# Altium integrated library Altium_WCAP-ATG5 (rev22d).IntLib: 204 symbols (part 4 of 4)
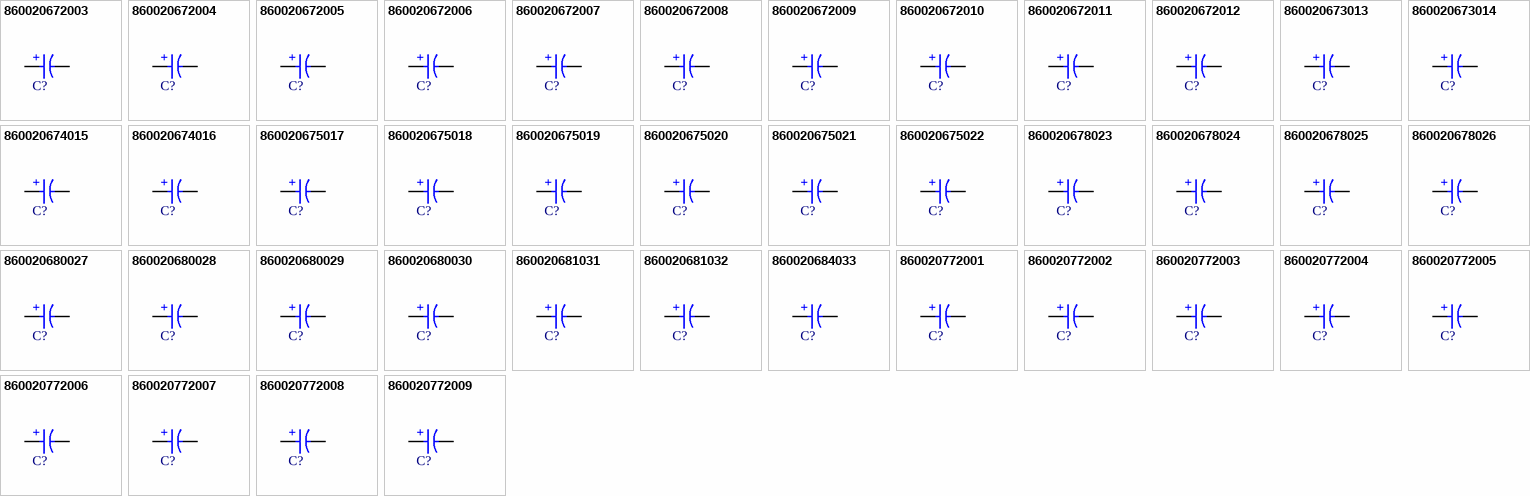
[diagram p8: symbols 860020672003 to 860020772009]

## 860020772005
designator C?, comment 1µF  (value not drawn)
WCAP-ATG5 Aluminum Electrolytic Capacitor, Radial, THT, D5 x H11mm, 1µF, 63V; Manufacturer Part Number: 860020772005; Manufacturer: Wurth Elektronik; Capacitance Tolerance: +/-20%; Dissipation Factor: 9%; Endurance: 2000h; Leakage Current: 3µA; Ripple Current: 13mA; Technical Reference: ATDC110010M063DSPA3B000; Category: Aluminum Electrolytic Capacitors; Match Code: WCAP-ATG5; ComponentLink1Description: Website Link; ComponentLink1URL: https://www.we-online.com/redexpert/article/860020772005?ad; ComponentLink2Description: Datasheet Link; ComponentLink2URL: https://www.we-online.com/redexpert/spec/860020772005?ad; Mount: Through Hole; Operating Temperature Max: 105°C; Operating Temperature Min: -40°C; Packaging: Ammo Pack; Height: 11mm; Diameter: 5mm; Capacitance: 1µF; Rated Voltage (DC): 63V
footprint WCAP-ATG5_D5H11
simulation model 860020772005_1uF
pins: 1 P, 2 N
text: +

## 860020772006
designator C?, comment 2.2µF  (value not drawn)
WCAP-ATG5 Aluminum Electrolytic Capacitor, Radial, THT, D5 x H11mm, 2.2µF, 63V; Manufacturer Part Number: 860020772006; Manufacturer: Wurth Elektronik; Capacitance Tolerance: +/-20%; Dissipation Factor: 9%; Endurance: 2000h; Leakage Current: 3µA; Ripple Current: 20mA; Technical Reference: ATDC1102R2M063DSPA3B000; Category: Aluminum Electrolytic Capacitors; Match Code: WCAP-ATG5; ComponentLink1Description: Website Link; ComponentLink1URL: https://www.we-online.com/redexpert/article/860020772006?ad; ComponentLink2Description: Datasheet Link; ComponentLink2URL: https://www.we-online.com/redexpert/spec/860020772006?ad; Mount: Through Hole; Operating Temperature Max: 105°C; Operating Temperature Min: -40°C; Packaging: Ammo Pack; Height: 11mm; Diameter: 5mm; Capacitance: 2.2µF; Rated Voltage (DC): 63V
footprint WCAP-ATG5_D5H11
simulation model 860020772006_2.2uF
pins: 1 P, 2 N
text: +

## 860020772007
designator C?, comment 3.3µF  (value not drawn)
WCAP-ATG5 Aluminum Electrolytic Capacitor, Radial, THT, D5 x H11mm, 3.3µF, 63V; Manufacturer Part Number: 860020772007; Manufacturer: Wurth Elektronik; Capacitance Tolerance: +/-20%; Dissipation Factor: 9%; Endurance: 2000h; Leakage Current: 3µA; Ripple Current: 28mA; Technical Reference: ATDC1103R3M063DSPA3B000; Category: Aluminum Electrolytic Capacitors; Match Code: WCAP-ATG5; ComponentLink1Description: Website Link; ComponentLink1URL: https://www.we-online.com/redexpert/article/860020772007?ad; ComponentLink2Description: Datasheet Link; ComponentLink2URL: https://www.we-online.com/redexpert/spec/860020772007?ad; Mount: Through Hole; Operating Temperature Max: 105°C; Operating Temperature Min: -40°C; Packaging: Ammo Pack; Height: 11mm; Diameter: 5mm; Capacitance: 3.3µF; Rated Voltage (DC): 63V
footprint WCAP-ATG5_D5H11
simulation model 860020772007_3.3uF
pins: 1 P, 2 N
text: +

## 860020772008
designator C?, comment 4.7µF  (value not drawn)
WCAP-ATG5 Aluminum Electrolytic Capacitor, Radial, THT, D5 x H11mm, 4.7µF, 63V; Manufacturer Part Number: 860020772008; Manufacturer: Wurth Elektronik; Capacitance Tolerance: +/-20%; Dissipation Factor: 9%; Endurance: 2000h; Leakage Current: 3µA; Ripple Current: 32mA; Technical Reference: ATDC1104R7M063DSPA3B000; Category: Aluminum Electrolytic Capacitors; Match Code: WCAP-ATG5; ComponentLink1Description: Website Link; ComponentLink1URL: https://www.we-online.com/redexpert/article/860020772008?ad; ComponentLink2Description: Datasheet Link; ComponentLink2URL: https://www.we-online.com/redexpert/spec/860020772008?ad; Mount: Through Hole; Operating Temperature Max: 105°C; Operating Temperature Min: -40°C; Packaging: Ammo Pack; Height: 11mm; Diameter: 5mm; Capacitance: 4.7µF; Rated Voltage (DC): 63V
footprint WCAP-ATG5_D5H11
simulation model 860020772008_4.7uF
pins: 1 P, 2 N
text: +

## 860020772009
designator C?, comment 6.8µF  (value not drawn)
WCAP-ATG5 Aluminum Electrolytic Capacitor, Radial, THT, D5 x H11mm, 6.8µF, 63V; Manufacturer Part Number: 860020772009; Manufacturer: Wurth Elektronik; Capacitance Tolerance: +/-20%; Dissipation Factor: 9%; Endurance: 2000h; Leakage Current: 4.284µA; Ripple Current: 40mA; Technical Reference: ATDC1106R8M063DSPA3B000; Category: Aluminum Electrolytic Capacitors; Match Code: WCAP-ATG5; ComponentLink1Description: Website Link; ComponentLink1URL: https://www.we-online.com/redexpert/article/860020772009?ad; ComponentLink2Description: Datasheet Link; ComponentLink2URL: https://www.we-online.com/redexpert/spec/860020772009?ad; Mount: Through Hole; Operating Temperature Max: 105°C; Operating Temperature Min: -40°C; Packaging: Ammo Pack; Height: 11mm; Diameter: 5mm; Capacitance: 6.8µF; Rated Voltage (DC): 63V
footprint WCAP-ATG5_D5H11
simulation model 860020772009_6.8uF
pins: 1 P, 2 N
text: +

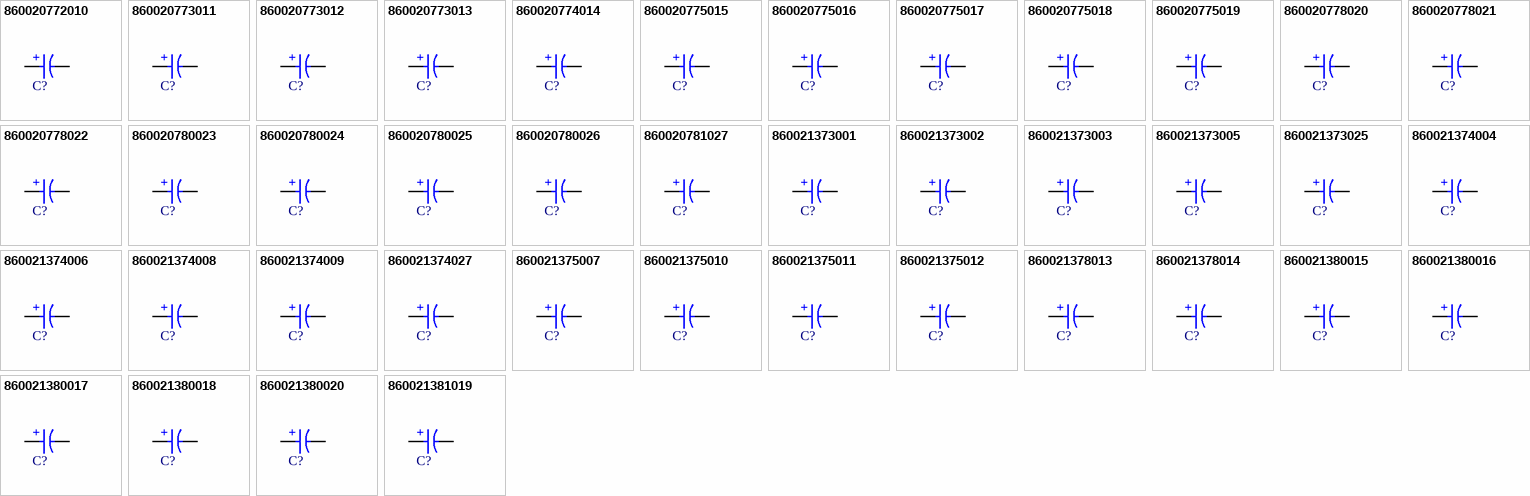
[diagram p4: symbols 860020772010 to 860021381019]

## 860020772010
designator C?, comment 10µF  (value not drawn)
WCAP-ATG5 Aluminum Electrolytic Capacitor, Radial, THT, D5 x H11mm, 10µF, 63V; Manufacturer Part Number: 860020772010; Manufacturer: Wurth Elektronik; Capacitance Tolerance: +/-20%; Dissipation Factor: 9%; Endurance: 2000h; Leakage Current: 6.3µA; Ripple Current: 42mA; Technical Reference: ATDC110100M063DSPA3B000; Category: Aluminum Electrolytic Capacitors; Match Code: WCAP-ATG5; ComponentLink1Description: Website Link; ComponentLink1URL: https://www.we-online.com/redexpert/article/860020772010?ad; ComponentLink2Description: Datasheet Link; ComponentLink2URL: https://www.we-online.com/redexpert/spec/860020772010?ad; Mount: Through Hole; Operating Temperature Max: 105°C; Operating Temperature Min: -40°C; Packaging: Ammo Pack; Height: 11mm; Diameter: 5mm; Capacitance: 10µF; Rated Voltage (DC): 63V
footprint WCAP-ATG5_D5H11
simulation model 860020772010_10uF
pins: 1 P, 2 N
text: +

## 860020773011
designator C?, comment 22µF  (value not drawn)
WCAP-ATG5 Aluminum Electrolytic Capacitor, Radial, THT, D6.3 x H11mm, 22µF, 63V; Manufacturer Part Number: 860020773011; Manufacturer: Wurth Elektronik; Capacitance Tolerance: +/-20%; Dissipation Factor: 9%; Endurance: 2000h; Leakage Current: 13.86µA; Ripple Current: 82mA; Technical Reference: ATDD110220M063DSPA4B000; Category: Aluminum Electrolytic Capacitors; Match Code: WCAP-ATG5; ComponentLink1Description: Website Link; ComponentLink1URL: https://www.we-online.com/redexpert/article/860020773011?ad; ComponentLink2Description: Datasheet Link; ComponentLink2URL: https://www.we-online.com/redexpert/spec/860020773011?ad; Mount: Through Hole; Operating Temperature Max: 105°C; Operating Temperature Min: -40°C; Packaging: Ammo Pack; Height: 11mm; Diameter: 6.3mm; Capacitance: 22µF; Rated Voltage (DC): 63V
footprint WCAP-ATG5_D6.3H11
simulation model 860020773011_22uF
pins: 1 P, 2 N
text: +

## 860020773012
designator C?, comment 33µF  (value not drawn)
WCAP-ATG5 Aluminum Electrolytic Capacitor, Radial, THT, D6.3 x H11mm, 33µF, 63V; Manufacturer Part Number: 860020773012; Manufacturer: Wurth Elektronik; Capacitance Tolerance: +/-20%; Dissipation Factor: 9%; Endurance: 2000h; Leakage Current: 20.79µA; Ripple Current: 100mA; Technical Reference: ATDD110330M063DSPA4B000; Category: Aluminum Electrolytic Capacitors; Match Code: WCAP-ATG5; ComponentLink1Description: Website Link; ComponentLink1URL: https://www.we-online.com/redexpert/article/860020773012?ad; ComponentLink2Description: Datasheet Link; ComponentLink2URL: https://www.we-online.com/redexpert/spec/860020773012?ad; Mount: Through Hole; Operating Temperature Max: 105°C; Operating Temperature Min: -40°C; Packaging: Ammo Pack; Height: 11mm; Diameter: 6.3mm; Capacitance: 33µF; Rated Voltage (DC): 63V
footprint WCAP-ATG5_D6.3H11
simulation model 860020773012_33uF
pins: 1 P, 2 N
text: +

## 860020773013
designator C?, comment 47µF  (value not drawn)
WCAP-ATG5 Aluminum Electrolytic Capacitor, Radial, THT, D6.3 x H11mm, 47µF, 63V; Manufacturer Part Number: 860020773013; Manufacturer: Wurth Elektronik; Capacitance Tolerance: +/-20%; Dissipation Factor: 9%; Endurance: 2000h; Leakage Current: 29.61µA; Ripple Current: 125mA; Technical Reference: ATDD110470M063DSPA4B000; Category: Aluminum Electrolytic Capacitors; Match Code: WCAP-ATG5; ComponentLink1Description: Website Link; ComponentLink1URL: https://www.we-online.com/redexpert/article/860020773013?ad; ComponentLink2Description: Datasheet Link; ComponentLink2URL: https://www.we-online.com/redexpert/spec/860020773013?ad; Mount: Through Hole; Operating Temperature Max: 105°C; Operating Temperature Min: -40°C; Packaging: Ammo Pack; Height: 11mm; Diameter: 6.3mm; Capacitance: 47µF; Rated Voltage (DC): 63V
footprint WCAP-ATG5_D6.3H11
simulation model 860020773013_47uF
pins: 1 P, 2 N
text: +

## 860020774014
designator C?, comment 68µF  (value not drawn)
WCAP-ATG5 Aluminum Electrolytic Capacitor, Radial, THT, D8 x H11.5mm, 68µF, 63V; Manufacturer Part Number: 860020774014; Manufacturer: Wurth Elektronik; Capacitance Tolerance: +/-20%; Dissipation Factor: 9%; Endurance: 2000h; Leakage Current: 42.84µA; Ripple Current: 155mA; Technical Reference: ATDE115680M063DSPA7B000; Category: Aluminum Electrolytic Capacitors; Match Code: WCAP-ATG5; ComponentLink1Description: Website Link; ComponentLink1URL: https://www.we-online.com/redexpert/article/860020774014?ad; ComponentLink2Description: Datasheet Link; ComponentLink2URL: https://www.we-online.com/redexpert/spec/860020774014?ad; Mount: Through Hole; Operating Temperature Max: 105°C; Operating Temperature Min: -40°C; Packaging: Ammo Pack; Height: 11.5mm; Diameter: 8mm; Capacitance: 68µF; Rated Voltage (DC): 63V
footprint WCAP-ATG5_D8H11.5
simulation model 860020774014_68uF
pins: 1 P, 2 N
text: +

## 860020775015
designator C?, comment 100µF  (value not drawn)
WCAP-ATG5 Aluminum Electrolytic Capacitor, Radial, THT, D10 x H12.5mm, 100µF, 63V; Manufacturer Part Number: 860020775015; Manufacturer: Wurth Elektronik; Capacitance Tolerance: +/-20%; Dissipation Factor: 9%; Endurance: 2000h; Leakage Current: 63µA; Ripple Current: 230mA; Technical Reference: ATDF125101M063DSPA9B000; Category: Aluminum Electrolytic Capacitors; Match Code: WCAP-ATG5; ComponentLink1Description: Website Link; ComponentLink1URL: https://www.we-online.com/redexpert/article/860020775015?ad; ComponentLink2Description: Datasheet Link; ComponentLink2URL: https://www.we-online.com/redexpert/spec/860020775015?ad; Mount: Through Hole; Operating Temperature Max: 105°C; Operating Temperature Min: -40°C; Packaging: Ammo Pack; Height: 12.5mm; Diameter: 10mm; Capacitance: 100µF; Rated Voltage (DC): 63V
footprint WCAP-ATG5_D10H12.5
simulation model 860020775015_100uF
pins: 1 P, 2 N
text: +

## 860020775016
designator C?, comment 120µF  (value not drawn)
WCAP-ATG5 Aluminum Electrolytic Capacitor, Radial, THT, D10 x H16mm, 120µF, 63V; Manufacturer Part Number: 860020775016; Manufacturer: Wurth Elektronik; Capacitance Tolerance: +/-20%; Dissipation Factor: 9%; Endurance: 2000h; Leakage Current: 75.6µA; Ripple Current: 255mA; Technical Reference: ATDF160121M063DSPAAB000; Category: Aluminum Electrolytic Capacitors; Match Code: WCAP-ATG5; ComponentLink1Description: Website Link; ComponentLink1URL: https://www.we-online.com/redexpert/article/860020775016?ad; ComponentLink2Description: Datasheet Link; ComponentLink2URL: https://www.we-online.com/redexpert/spec/860020775016?ad; Mount: Through Hole; Operating Temperature Max: 105°C; Operating Temperature Min: -40°C; Packaging: Ammo Pack; Height: 16mm; Diameter: 10mm; Capacitance: 120µF; Rated Voltage (DC): 63V
footprint WCAP-ATG5_D10H16
simulation model 860020775016_120uF
pins: 1 P, 2 N
text: +

## 860020775017
designator C?, comment 150µF  (value not drawn)
WCAP-ATG5 Aluminum Electrolytic Capacitor, Radial, THT, D10 x H16mm, 150µF, 63V; Manufacturer Part Number: 860020775017; Manufacturer: Wurth Elektronik; Capacitance Tolerance: +/-20%; Dissipation Factor: 9%; Endurance: 2000h; Leakage Current: 94.5µA; Ripple Current: 270mA; Technical Reference: ATDF160151M063DSPAAB000; Category: Aluminum Electrolytic Capacitors; Match Code: WCAP-ATG5; ComponentLink1Description: Website Link; ComponentLink1URL: https://www.we-online.com/redexpert/article/860020775017?ad; ComponentLink2Description: Datasheet Link; ComponentLink2URL: https://www.we-online.com/redexpert/spec/860020775017?ad; Mount: Through Hole; Operating Temperature Max: 105°C; Operating Temperature Min: -40°C; Packaging: Ammo Pack; Height: 16mm; Diameter: 10mm; Capacitance: 150µF; Rated Voltage (DC): 63V
footprint WCAP-ATG5_D10H16
simulation model 860020775017_150uF
pins: 1 P, 2 N
text: +

## 860020775018
designator C?, comment 180µF  (value not drawn)
WCAP-ATG5 Aluminum Electrolytic Capacitor, Radial, THT, D10 x H16mm, 180µF, 63V; Manufacturer Part Number: 860020775018; Manufacturer: Wurth Elektronik; Capacitance Tolerance: +/-20%; Dissipation Factor: 9%; Endurance: 2000h; Leakage Current: 113.4µA; Ripple Current: 310mA; Technical Reference: ATDF160181M063DSPAAB000; Category: Aluminum Electrolytic Capacitors; Match Code: WCAP-ATG5; ComponentLink1Description: Website Link; ComponentLink1URL: https://www.we-online.com/redexpert/article/860020775018?ad; ComponentLink2Description: Datasheet Link; ComponentLink2URL: https://www.we-online.com/redexpert/spec/860020775018?ad; Mount: Through Hole; Operating Temperature Max: 105°C; Operating Temperature Min: -40°C; Packaging: Ammo Pack; Height: 16mm; Diameter: 10mm; Capacitance: 180µF; Rated Voltage (DC): 63V
footprint WCAP-ATG5_D10H16
simulation model 860020775018_180uF
pins: 1 P, 2 N
text: +

## 860020775019
designator C?, comment 220µF  (value not drawn)
WCAP-ATG5 Aluminum Electrolytic Capacitor, Radial, THT, D10 x H16mm, 220µF, 63V; Manufacturer Part Number: 860020775019; Manufacturer: Wurth Elektronik; Capacitance Tolerance: +/-20%; Dissipation Factor: 9%; Endurance: 2000h; Leakage Current: 138.6µA; Ripple Current: 375mA; Technical Reference: ATDF160221M063DSPAAB000; Category: Aluminum Electrolytic Capacitors; Match Code: WCAP-ATG5; ComponentLink1Description: Website Link; ComponentLink1URL: https://www.we-online.com/redexpert/article/860020775019?ad; ComponentLink2Description: Datasheet Link; ComponentLink2URL: https://www.we-online.com/redexpert/spec/860020775019?ad; Mount: Through Hole; Operating Temperature Max: 105°C; Operating Temperature Min: -40°C; Packaging: Ammo Pack; Height: 16mm; Diameter: 10mm; Capacitance: 220µF; Rated Voltage (DC): 63V
footprint WCAP-ATG5_D10H16
simulation model 860020775019_220uF
pins: 1 P, 2 N
text: +

## 860020778020
designator C?, comment 330µF  (value not drawn)
WCAP-ATG5 Aluminum Electrolytic Capacitor, Radial, THT, D13 x H20mm, 330µF, 63V; Manufacturer Part Number: 860020778020; Manufacturer: Wurth Elektronik; Capacitance Tolerance: +/-20%; Dissipation Factor: 9%; Endurance: 2000h; Leakage Current: 207.9µA; Ripple Current: 580mA; Technical Reference: ATDI200331M063DSPACB000; Category: Aluminum Electrolytic Capacitors; Match Code: WCAP-ATG5; ComponentLink1Description: Website Link; ComponentLink1URL: https://www.we-online.com/redexpert/article/860020778020?ad; ComponentLink2Description: Datasheet Link; ComponentLink2URL: https://www.we-online.com/redexpert/spec/860020778020?ad; Mount: Through Hole; Operating Temperature Max: 105°C; Operating Temperature Min: -40°C; Packaging: Ammo Pack; Height: 20mm; Diameter: 13mm; Capacitance: 330µF; Rated Voltage (DC): 63V
footprint WCAP-ATG5_D13H20
simulation model 860020778020_330uF
pins: 1 P, 2 N
text: +

## 860020778021
designator C?, comment 470µF  (value not drawn)
WCAP-ATG5 Aluminum Electrolytic Capacitor, Radial, THT, D13 x H20mm, 470µF, 63V; Manufacturer Part Number: 860020778021; Manufacturer: Wurth Elektronik; Capacitance Tolerance: +/-20%; Dissipation Factor: 9%; Endurance: 2000h; Leakage Current: 296.1µA; Ripple Current: 690mA; Technical Reference: ATDI200471M063DSPACB000; Category: Aluminum Electrolytic Capacitors; Match Code: WCAP-ATG5; ComponentLink1Description: Website Link; ComponentLink1URL: https://www.we-online.com/redexpert/article/860020778021?ad; ComponentLink2Description: Datasheet Link; ComponentLink2URL: https://www.we-online.com/redexpert/spec/860020778021?ad; Mount: Through Hole; Operating Temperature Max: 105°C; Operating Temperature Min: -40°C; Packaging: Ammo Pack; Height: 20mm; Diameter: 13mm; Capacitance: 470µF; Rated Voltage (DC): 63V
footprint WCAP-ATG5_D13H20
simulation model 860020778021_470uF
pins: 1 P, 2 N
text: +

## 860020778022
designator C?, comment 560µF  (value not drawn)
WCAP-ATG5 Aluminum Electrolytic Capacitor, Radial, THT, D13 x H25mm, 560µF, 63V; Manufacturer Part Number: 860020778022; Manufacturer: Wurth Elektronik; Capacitance Tolerance: +/-20%; Dissipation Factor: 9%; Endurance: 2000h; Leakage Current: 352.8µA; Ripple Current: 770mA; Technical Reference: ATDI250561M063DSPACB000; Category: Aluminum Electrolytic Capacitors; Match Code: WCAP-ATG5; ComponentLink1Description: Website Link; ComponentLink1URL: https://www.we-online.com/redexpert/article/860020778022?ad; ComponentLink2Description: Datasheet Link; ComponentLink2URL: https://www.we-online.com/redexpert/spec/860020778022?ad; Mount: Through Hole; Operating Temperature Max: 105°C; Operating Temperature Min: -40°C; Packaging: Ammo Pack; Height: 25mm; Diameter: 13mm; Capacitance: 560µF; Rated Voltage (DC): 63V
footprint WCAP-ATG5_D13H25
simulation model 860020778022_560uF
pins: 1 P, 2 N
text: +

## 860020780023
designator C?, comment 680µF  (value not drawn)
WCAP-ATG5 Aluminum Electrolytic Capacitor, Radial, THT, D16 x H25mm, 680µF, 63V; Manufacturer Part Number: 860020780023; Manufacturer: Wurth Elektronik; Capacitance Tolerance: +/-20%; Dissipation Factor: 9%; Endurance: 2000h; Leakage Current: 428.4µA; Ripple Current: 880mA; Technical Reference: ATDK250681M063DSPAEB000; Category: Aluminum Electrolytic Capacitors; Match Code: WCAP-ATG5; ComponentLink1Description: Website Link; ComponentLink1URL: https://www.we-online.com/redexpert/article/860020780023?ad; ComponentLink2Description: Datasheet Link; ComponentLink2URL: https://www.we-online.com/redexpert/spec/860020780023?ad; Mount: Through Hole; Operating Temperature Max: 105°C; Operating Temperature Min: -40°C; Packaging: Ammo Pack; Height: 25mm; Diameter: 16mm; Capacitance: 680µF; Rated Voltage (DC): 63V
footprint WCAP-ATG5_D16H25
simulation model 860020780023_680uF
pins: 1 P, 2 N
text: +

## 860020780024
designator C?, comment 820µF  (value not drawn)
WCAP-ATG5 Aluminum Electrolytic Capacitor, Radial, THT, D16 x H25mm, 820µF, 63V; Manufacturer Part Number: 860020780024; Manufacturer: Wurth Elektronik; Capacitance Tolerance: +/-20%; Dissipation Factor: 9%; Endurance: 2000h; Leakage Current: 516.6µA; Ripple Current: 920mA; Technical Reference: ATDK250821M063DSPAEB000; Category: Aluminum Electrolytic Capacitors; Match Code: WCAP-ATG5; ComponentLink1Description: Website Link; ComponentLink1URL: https://www.we-online.com/redexpert/article/860020780024?ad; ComponentLink2Description: Datasheet Link; ComponentLink2URL: https://www.we-online.com/redexpert/spec/860020780024?ad; Mount: Through Hole; Operating Temperature Max: 105°C; Operating Temperature Min: -40°C; Packaging: Ammo Pack; Height: 25mm; Diameter: 16mm; Capacitance: 820µF; Rated Voltage (DC): 63V
footprint WCAP-ATG5_D16H25
simulation model 860020780024_820uF
pins: 1 P, 2 N
text: +

## 860020780025
designator C?, comment 1000µF  (value not drawn)
WCAP-ATG5 Aluminum Electrolytic Capacitor, Radial, THT, D16 x H31.5mm, 1000µF, 63V; Manufacturer Part Number: 860020780025; Manufacturer: Wurth Elektronik; Capacitance Tolerance: +/-20%; Dissipation Factor: 9%; Endurance: 2000h; Leakage Current: 630µA; Ripple Current: 1185mA; Technical Reference: ATDK315102M063DSPADB000; Category: Aluminum Electrolytic Capacitors; Match Code: WCAP-ATG5; ComponentLink1Description: Website Link; ComponentLink1URL: https://www.we-online.com/redexpert/article/860020780025?ad; ComponentLink2Description: Datasheet Link; ComponentLink2URL: https://www.we-online.com/redexpert/spec/860020780025?ad; Mount: Through Hole; Operating Temperature Max: 105°C; Operating Temperature Min: -40°C; Packaging: Ammo Pack; Height: 31.5mm; Diameter: 16mm; Capacitance: 1000µF; Rated Voltage (DC): 63V
footprint WCAP-ATG5_D16H31.5
simulation model 860020780025_1mF
pins: 1 P, 2 N
text: +

## 860020780026
designator C?, comment 1200µF  (value not drawn)
WCAP-ATG5 Aluminum Electrolytic Capacitor, Radial, THT, D16 x H35.5mm, 1200µF, 63V; Manufacturer Part Number: 860020780026; Manufacturer: Wurth Elektronik; Capacitance Tolerance: +/-20%; Dissipation Factor: 9%; Endurance: 2000h; Leakage Current: 756µA; Ripple Current: 1200mA; Technical Reference: ATDK355122M063DSPADB000; Category: Aluminum Electrolytic Capacitors; Match Code: WCAP-ATG5; ComponentLink1Description: Website Link; ComponentLink1URL: https://www.we-online.com/redexpert/article/860020780026?ad; ComponentLink2Description: Datasheet Link; ComponentLink2URL: https://www.we-online.com/redexpert/spec/860020780026?ad; Mount: Through Hole; Operating Temperature Max: 105°C; Operating Temperature Min: -40°C; Packaging: Ammo Pack; Height: 35.5mm; Diameter: 16mm; Capacitance: 1200µF; Rated Voltage (DC): 63V
footprint WCAP-ATG5_D16H35.5
simulation model 860020780026_1.2mF
pins: 1 P, 2 N
text: +

## 860020781027
designator C?, comment 1500µF  (value not drawn)
WCAP-ATG5 Aluminum Electrolytic Capacitor, Radial, THT, D18 x H31.5mm, 1500µF, 63V; Manufacturer Part Number: 860020781027; Manufacturer: Wurth Elektronik; Capacitance Tolerance: +/-20%; Dissipation Factor: 9%; Endurance: 2000h; Leakage Current: 945µA; Ripple Current: 1350mA; Technical Reference: ATDL315152M063DSPAEB000; Category: Aluminum Electrolytic Capacitors; Match Code: WCAP-ATG5; ComponentLink1Description: Website Link; ComponentLink1URL: https://www.we-online.com/redexpert/article/860020781027?ad; ComponentLink2Description: Datasheet Link; ComponentLink2URL: https://www.we-online.com/redexpert/spec/860020781027?ad; Mount: Through Hole; Operating Temperature Max: 105°C; Operating Temperature Min: -40°C; Packaging: Ammo Pack; Height: 31.5mm; Diameter: 18mm; Capacitance: 1500µF; Rated Voltage (DC): 63V
footprint WCAP-ATG5_D18H31.5
simulation model 860020781027_1.5mF
pins: 1 P, 2 N
text: +

## 860021373001
designator C?, comment 0.47µF  (value not drawn)
WCAP-ATG5 Aluminum Electrolytic Capacitor, Radial, THT, D6.3 x H11mm, 0.47µF, 400V; Manufacturer Part Number: 860021373001; Manufacturer: Wurth Elektronik; Capacitance Tolerance: +/-20%; Dissipation Factor: 15%; Endurance: 2000h; Leakage Current: 5.64µA; Ripple Current: 14mA; Technical Reference: ATJD110R47M400DSPA4B000; Category: Aluminum Electrolytic Capacitors; Match Code: WCAP-ATG5; ComponentLink1Description: Website Link; ComponentLink1URL: https://www.we-online.com/redexpert/article/860021373001?ad; ComponentLink2Description: Datasheet Link; ComponentLink2URL: https://www.we-online.com/redexpert/spec/860021373001?ad; Mount: Through Hole; Operating Temperature Max: 105°C; Operating Temperature Min: -25°C; Packaging: Ammo Pack; Height: 11mm; Diameter: 6.3mm; Capacitance: 0.47µF; Rated Voltage (DC): 400V
footprint WCAP-ATG5_D6.3H11
simulation model 860021373001_470nF
pins: 1 P, 2 N
text: +

## 860021373002
designator C?, comment 1µF  (value not drawn)
WCAP-ATG5 Aluminum Electrolytic Capacitor, Radial, THT, D6.3 x H11mm, 1µF, 400V; Manufacturer Part Number: 860021373002; Manufacturer: Wurth Elektronik; Capacitance Tolerance: +/-20%; Dissipation Factor: 15%; Endurance: 2000h; Leakage Current: 12µA; Ripple Current: 17mA; Technical Reference: ATJD110010M400DSPA4B000; Category: Aluminum Electrolytic Capacitors; Match Code: WCAP-ATG5; ComponentLink1Description: Website Link; ComponentLink1URL: https://www.we-online.com/redexpert/article/860021373002?ad; ComponentLink2Description: Datasheet Link; ComponentLink2URL: https://www.we-online.com/redexpert/spec/860021373002?ad; Mount: Through Hole; Operating Temperature Max: 105°C; Operating Temperature Min: -25°C; Packaging: Ammo Pack; Height: 11mm; Diameter: 6.3mm; Capacitance: 1µF; Rated Voltage (DC): 400V
footprint WCAP-ATG5_D6.3H11
simulation model 860021373002_1uF
pins: 1 P, 2 N
text: +

## 860021373003
designator C?, comment 2.2µF  (value not drawn)
WCAP-ATG5 Aluminum Electrolytic Capacitor, Radial, THT, D6.3 x H15mm, 2.2µF, 400V; Manufacturer Part Number: 860021373003; Manufacturer: Wurth Elektronik; Capacitance Tolerance: +/-20%; Dissipation Factor: 15%; Endurance: 2000h; Leakage Current: 26.4µA; Ripple Current: 34mA; Technical Reference: ATJD1502R2M400DSPA4B000; Category: Aluminum Electrolytic Capacitors; Match Code: WCAP-ATG5; ComponentLink1Description: Website Link; ComponentLink1URL: https://www.we-online.com/redexpert/article/860021373003?ad; ComponentLink2Description: Datasheet Link; ComponentLink2URL: https://www.we-online.com/redexpert/spec/860021373003?ad; Mount: Through Hole; Operating Temperature Max: 105°C; Operating Temperature Min: -25°C; Packaging: Ammo Pack; Height: 15mm; Diameter: 6.3mm; Capacitance: 2.2µF; Rated Voltage (DC): 400V
footprint WCAP-ATG5_D6.3H15
simulation model 860021373003_2.2uF
pins: 1 P, 2 N
text: +

## 860021373005
designator C?, comment 3.3µF  (value not drawn)
WCAP-ATG5 Aluminum Electrolytic Capacitor, Radial, THT, D6.3 x H15mm, 3.3µF, 400V; Manufacturer Part Number: 860021373005; Manufacturer: Wurth Elektronik; Capacitance Tolerance: +/-20%; Dissipation Factor: 15%; Endurance: 2000h; Leakage Current: 39.6µA; Ripple Current: 35mA; Technical Reference: ATJD1503R3M400DSPA4B000; Category: Aluminum Electrolytic Capacitors; Match Code: WCAP-ATG5; ComponentLink1Description: Website Link; ComponentLink1URL: https://www.we-online.com/redexpert/article/860021373005?ad; ComponentLink2Description: Datasheet Link; ComponentLink2URL: https://www.we-online.com/redexpert/spec/860021373005?ad; Mount: Through Hole; Operating Temperature Max: 105°C; Operating Temperature Min: -25°C; Packaging: Ammo Pack; Height: 15mm; Diameter: 6.3mm; Capacitance: 3.3µF; Rated Voltage (DC): 400V
footprint WCAP-ATG5_D6.3H15
simulation model 860021373005_3.3uF
pins: 1 P, 2 N
text: +

## 860021373025
designator C?, comment 4.7µF  (value not drawn)
WCAP-ATG5 Aluminum Electrolytic Capacitor, Radial, THT, D6.3 x H15mm, 4.7µF, 400V; Manufacturer Part Number: 860021373025; Manufacturer: Wurth Elektronik; Capacitance Tolerance: +/-20%; Dissipation Factor: 15%; Endurance: 2000h; Leakage Current: 56.4µA; Ripple Current: 50mA; Technical Reference: ATJD1504R7M400DSPA4B000; Category: Aluminum Electrolytic Capacitors; Match Code: WCAP-ATG5; ComponentLink1Description: Website Link; ComponentLink1URL: https://www.we-online.com/redexpert/article/860021373025?ad; ComponentLink2Description: Datasheet Link; ComponentLink2URL: https://www.we-online.com/redexpert/spec/860021373025?ad; Mount: Through Hole; Operating Temperature Max: 105°C; Operating Temperature Min: -25°C; Packaging: Ammo Pack; Height: 15mm; Diameter: 6.3mm; Capacitance: 4.7µF; Rated Voltage (DC): 400V
footprint WCAP-ATG5_D6.3H15
simulation model 860021373025_4.7uF
pins: 1 P, 2 N
text: +

## 860021374004
designator C?, comment 2.2µF  (value not drawn)
WCAP-ATG5 Aluminum Electrolytic Capacitor, Radial, THT, D8 x H11.5mm, 2.2µF, 400V; Manufacturer Part Number: 860021374004; Manufacturer: Wurth Elektronik; Capacitance Tolerance: +/-20%; Dissipation Factor: 15%; Endurance: 2000h; Leakage Current: 26.4µA; Ripple Current: 35mA; Technical Reference: ATJE1152R2M400DSPA7B000; Category: Aluminum Electrolytic Capacitors; Match Code: WCAP-ATG5; ComponentLink1Description: Website Link; ComponentLink1URL: https://www.we-online.com/redexpert/article/860021374004?ad; ComponentLink2Description: Datasheet Link; ComponentLink2URL: https://www.we-online.com/redexpert/spec/860021374004?ad; Mount: Through Hole; Operating Temperature Max: 105°C; Operating Temperature Min: -25°C; Packaging: Ammo Pack; Height: 11.5mm; Diameter: 8mm; Capacitance: 2.2µF; Rated Voltage (DC): 400V
footprint WCAP-ATG5_D8H11.5
simulation model 860021374004_2.2uF
pins: 1 P, 2 N
text: +

## 860021374006
designator C?, comment 3.3µF  (value not drawn)
WCAP-ATG5 Aluminum Electrolytic Capacitor, Radial, THT, D8 x H11.5mm, 3.3µF, 400V; Manufacturer Part Number: 860021374006; Manufacturer: Wurth Elektronik; Capacitance Tolerance: +/-20%; Dissipation Factor: 15%; Endurance: 2000h; Leakage Current: 39.6µA; Ripple Current: 36mA; Technical Reference: ATJE1153R3M400DSPA7B000; Category: Aluminum Electrolytic Capacitors; Match Code: WCAP-ATG5; ComponentLink1Description: Website Link; ComponentLink1URL: https://www.we-online.com/redexpert/article/860021374006?ad; ComponentLink2Description: Datasheet Link; ComponentLink2URL: https://www.we-online.com/redexpert/spec/860021374006?ad; Mount: Through Hole; Operating Temperature Max: 105°C; Operating Temperature Min: -25°C; Packaging: Ammo Pack; Height: 11.5mm; Diameter: 8mm; Capacitance: 3.3µF; Rated Voltage (DC): 400V
footprint WCAP-ATG5_D8H11.5
simulation model 860021374006_3.3uF
pins: 1 P, 2 N
text: +

## 860021374008
designator C?, comment 4.7µF  (value not drawn)
WCAP-ATG5 Aluminum Electrolytic Capacitor, Radial, THT, D8 x H11.5mm, 4.7µF, 400V; Manufacturer Part Number: 860021374008; Manufacturer: Wurth Elektronik; Capacitance Tolerance: +/-20%; Dissipation Factor: 15%; Endurance: 2000h; Leakage Current: 56.4µA; Ripple Current: 48mA; Technical Reference: ATJE1154R7M400DSPA7B000; Category: Aluminum Electrolytic Capacitors; Match Code: WCAP-ATG5; ComponentLink1Description: Website Link; ComponentLink1URL: https://www.we-online.com/redexpert/article/860021374008?ad; ComponentLink2Description: Datasheet Link; ComponentLink2URL: https://www.we-online.com/redexpert/spec/860021374008?ad; Mount: Through Hole; Operating Temperature Max: 105°C; Operating Temperature Min: -25°C; Packaging: Ammo Pack; Height: 11.5mm; Diameter: 8mm; Capacitance: 4.7µF; Rated Voltage (DC): 400V
footprint WCAP-ATG5_D8H11.5
simulation model 860021374008_4.7uF
pins: 1 P, 2 N
text: +

## 860021374009
designator C?, comment 6.8µF  (value not drawn)
WCAP-ATG5 Aluminum Electrolytic Capacitor, Radial, THT, D8 x H14mm, 6.8µF, 400V; Manufacturer Part Number: 860021374009; Manufacturer: Wurth Elektronik; Capacitance Tolerance: +/-20%; Dissipation Factor: 15%; Endurance: 2000h; Leakage Current: 81.6µA; Ripple Current: 75mA; Technical Reference: ATJE1406R8M400DSPA7B000; Category: Aluminum Electrolytic Capacitors; Match Code: WCAP-ATG5; ComponentLink1Description: Website Link; ComponentLink1URL: https://www.we-online.com/redexpert/article/860021374009?ad; ComponentLink2Description: Datasheet Link; ComponentLink2URL: https://www.we-online.com/redexpert/spec/860021374009?ad; Mount: Through Hole; Operating Temperature Max: 105°C; Operating Temperature Min: -25°C; Packaging: Ammo Pack; Height: 14mm; Diameter: 8mm; Capacitance: 6.8µF; Rated Voltage (DC): 400V
footprint WCAP-ATG5_D8H14
simulation model 860021374009_6.8uF
pins: 1 P, 2 N
text: +

## 860021374027
designator C?, comment 22µF  (value not drawn)
WCAP-ATG5 Aluminum Electrolytic Capacitor, Radial, THT, D8 x H16mm, 22µF, 400V; Manufacturer Part Number: 860021374027; Manufacturer: Wurth Elektronik; Capacitance Tolerance: +0%/-40%; Dissipation Factor: 15%; Endurance: 2000h; Leakage Current: 264µA; Ripple Current: 200mA; Technical Reference: ATJE1602203400DSPA7B0LR; Category: Aluminum Electrolytic Capacitors; Match Code: WCAP-ATG5; ComponentLink1Description: Website Link; ComponentLink1URL: https://www.we-online.com/redexpert/article/860021374027?ad; ComponentLink2Description: Datasheet Link; ComponentLink2URL: https://www.we-online.com/redexpert/spec/860021374027?ad; Mount: Through Hole; Operating Temperature Max: 105°C; Operating Temperature Min: -25°C; Packaging: Ammo Pack; Case/Size Code: D8 x H16mm; Height: 16mm; Diameter: 8mm; Capacitance: 22µF; Rated Voltage (DC): 400V
footprint WCAP-ATG5_D8H16
simulation model 860021374027_22uF
pins: 1 P, 2 N
text: +

## 860021375007
designator C?, comment 3.3µF  (value not drawn)
WCAP-ATG5 Aluminum Electrolytic Capacitor, Radial, THT, D10 x H12.5mm, 3.3µF, 400V; Manufacturer Part Number: 860021375007; Manufacturer: Wurth Elektronik; Capacitance Tolerance: +/-20%; Dissipation Factor: 15%; Endurance: 2000h; Leakage Current: 39.6µA; Ripple Current: 41mA; Technical Reference: ATJF1253R3M400DSPA9B000; Category: Aluminum Electrolytic Capacitors; Match Code: WCAP-ATG5; ComponentLink1Description: Website Link; ComponentLink1URL: https://www.we-online.com/redexpert/article/860021375007?ad; ComponentLink2Description: Datasheet Link; ComponentLink2URL: https://www.we-online.com/redexpert/spec/860021375007?ad; Mount: Through Hole; Operating Temperature Max: 105°C; Operating Temperature Min: -25°C; Packaging: Ammo Pack; Height: 12.5mm; Diameter: 10mm; Capacitance: 3.3µF; Rated Voltage (DC): 400V
footprint WCAP-ATG5_D10H12.5
simulation model 860021375007_3.3uF
pins: 1 P, 2 N
text: +

## 860021375010
designator C?, comment 6.8µF  (value not drawn)
WCAP-ATG5 Aluminum Electrolytic Capacitor, Radial, THT, D10 x H12.5mm, 6.8µF, 400V; Manufacturer Part Number: 860021375010; Manufacturer: Wurth Elektronik; Capacitance Tolerance: +/-20%; Dissipation Factor: 15%; Endurance: 2000h; Leakage Current: 81.6µA; Ripple Current: 82mA; Technical Reference: ATJF1256R8M400DSPA9B000; Category: Aluminum Electrolytic Capacitors; Match Code: WCAP-ATG5; ComponentLink1Description: Website Link; ComponentLink1URL: https://www.we-online.com/redexpert/article/860021375010?ad; ComponentLink2Description: Datasheet Link; ComponentLink2URL: https://www.we-online.com/redexpert/spec/860021375010?ad; Mount: Through Hole; Operating Temperature Max: 105°C; Operating Temperature Min: -25°C; Packaging: Ammo Pack; Height: 12.5mm; Diameter: 10mm; Capacitance: 6.8µF; Rated Voltage (DC): 400V
footprint WCAP-ATG5_D10H12.5
simulation model 860021375010_6.8uF
pins: 1 P, 2 N
text: +

## 860021375011
designator C?, comment 10µF  (value not drawn)
WCAP-ATG5 Aluminum Electrolytic Capacitor, Radial, THT, D10 x H14mm, 10µF, 400V; Manufacturer Part Number: 860021375011; Manufacturer: Wurth Elektronik; Capacitance Tolerance: +/-20%; Dissipation Factor: 15%; Endurance: 2000h; Leakage Current: 120µA; Ripple Current: 104mA; Technical Reference: ATJF140100M400DSPA9B000; Category: Aluminum Electrolytic Capacitors; Match Code: WCAP-ATG5; ComponentLink1Description: Website Link; ComponentLink1URL: https://www.we-online.com/redexpert/article/860021375011?ad; ComponentLink2Description: Datasheet Link; ComponentLink2URL: https://www.we-online.com/redexpert/spec/860021375011?ad; Mount: Through Hole; Operating Temperature Max: 105°C; Operating Temperature Min: -25°C; Packaging: Ammo Pack; Height: 14mm; Diameter: 10mm; Capacitance: 10µF; Rated Voltage (DC): 400V
footprint WCAP-ATG5_D10H14
simulation model 860021375011_10uF
pins: 1 P, 2 N
text: +

## 860021375012
designator C?, comment 22µF  (value not drawn)
WCAP-ATG5 Aluminum Electrolytic Capacitor, Radial, THT, D10 x H25mm, 22µF, 400V; Manufacturer Part Number: 860021375012; Manufacturer: Wurth Elektronik; Capacitance Tolerance: +/-20%; Dissipation Factor: 15%; Endurance: 2000h; Leakage Current: 264µA; Ripple Current: 162mA; Technical Reference: ATJF250220M400DSPAAB000; Category: Aluminum Electrolytic Capacitors; Match Code: WCAP-ATG5; ComponentLink1Description: Website Link; ComponentLink1URL: https://www.we-online.com/redexpert/article/860021375012?ad; ComponentLink2Description: Datasheet Link; ComponentLink2URL: https://www.we-online.com/redexpert/spec/860021375012?ad; Mount: Through Hole; Operating Temperature Max: 105°C; Operating Temperature Min: -25°C; Packaging: Ammo Pack; Height: 25mm; Diameter: 10mm; Capacitance: 22µF; Rated Voltage (DC): 400V
footprint WCAP-ATG5_D10H25
simulation model 860021375012_22uF
pins: 1 P, 2 N
text: +

## 860021378013
designator C?, comment 22µF  (value not drawn)
WCAP-ATG5 Aluminum Electrolytic Capacitor, Radial, THT, D13 x H20mm, 22µF, 400V; Manufacturer Part Number: 860021378013; Manufacturer: Wurth Elektronik; Capacitance Tolerance: +/-20%; Dissipation Factor: 15%; Endurance: 2000h; Leakage Current: 264µA; Ripple Current: 170mA; Technical Reference: ATJI200220M400DSPACB000; Category: Aluminum Electrolytic Capacitors; Match Code: WCAP-ATG5; ComponentLink1Description: Website Link; ComponentLink1URL: https://www.we-online.com/redexpert/article/860021378013?ad; ComponentLink2Description: Datasheet Link; ComponentLink2URL: https://www.we-online.com/redexpert/spec/860021378013?ad; Mount: Through Hole; Operating Temperature Max: 105°C; Operating Temperature Min: -25°C; Packaging: Ammo Pack; Height: 20mm; Diameter: 13mm; Capacitance: 22µF; Rated Voltage (DC): 400V
footprint WCAP-ATG5_D13H20
simulation model 860021378013_22uF
pins: 1 P, 2 N
text: +

## 860021378014
designator C?, comment 33µF  (value not drawn)
WCAP-ATG5 Aluminum Electrolytic Capacitor, Radial, THT, D13 x H20mm, 33µF, 400V; Manufacturer Part Number: 860021378014; Manufacturer: Wurth Elektronik; Capacitance Tolerance: +/-20%; Dissipation Factor: 15%; Endurance: 2000h; Leakage Current: 396µA; Ripple Current: 235mA; Technical Reference: ATJI200330M400DSPACB000; Category: Aluminum Electrolytic Capacitors; Match Code: WCAP-ATG5; ComponentLink1Description: Website Link; ComponentLink1URL: https://www.we-online.com/redexpert/article/860021378014?ad; ComponentLink2Description: Datasheet Link; ComponentLink2URL: https://www.we-online.com/redexpert/spec/860021378014?ad; Mount: Through Hole; Operating Temperature Max: 105°C; Operating Temperature Min: -25°C; Packaging: Ammo Pack; Height: 20mm; Diameter: 13mm; Capacitance: 33µF; Rated Voltage (DC): 400V
footprint WCAP-ATG5_D13H20
simulation model 860021378014_33uF
pins: 1 P, 2 N
text: +

## 860021380015
designator C?, comment 47µF  (value not drawn)
WCAP-ATG5 Aluminum Electrolytic Capacitor, Radial, THT, D16 x H25mm, 47µF, 400V; Manufacturer Part Number: 860021380015; Manufacturer: Wurth Elektronik; Capacitance Tolerance: +/-20%; Dissipation Factor: 15%; Endurance: 2000h; Leakage Current: 564µA; Ripple Current: 300mA; Technical Reference: ATJK250470M400DSPAEB000; Category: Aluminum Electrolytic Capacitors; Match Code: WCAP-ATG5; ComponentLink1Description: Website Link; ComponentLink1URL: https://www.we-online.com/redexpert/article/860021380015?ad; ComponentLink2Description: Datasheet Link; ComponentLink2URL: https://www.we-online.com/redexpert/spec/860021380015?ad; Mount: Through Hole; Operating Temperature Max: 105°C; Operating Temperature Min: -25°C; Packaging: Ammo Pack; Height: 25mm; Diameter: 16mm; Capacitance: 47µF; Rated Voltage (DC): 400V
footprint WCAP-ATG5_D16H25
simulation model 860021380015_47uF
pins: 1 P, 2 N
text: +

## 860021380016
designator C?, comment 56µF  (value not drawn)
WCAP-ATG5 Aluminum Electrolytic Capacitor, Radial, THT, D16 x H25mm, 56µF, 400V; Manufacturer Part Number: 860021380016; Manufacturer: Wurth Elektronik; Capacitance Tolerance: +/-20%; Dissipation Factor: 15%; Endurance: 2000h; Leakage Current: 672µA; Ripple Current: 360mA; Technical Reference: ATJK250560M400DSPAEB000; Category: Aluminum Electrolytic Capacitors; Match Code: WCAP-ATG5; ComponentLink1Description: Website Link; ComponentLink1URL: https://www.we-online.com/redexpert/article/860021380016?ad; ComponentLink2Description: Datasheet Link; ComponentLink2URL: https://www.we-online.com/redexpert/spec/860021380016?ad; Mount: Through Hole; Operating Temperature Max: 105°C; Operating Temperature Min: -25°C; Packaging: Ammo Pack; Height: 25mm; Diameter: 16mm; Capacitance: 56µF; Rated Voltage (DC): 400V
footprint WCAP-ATG5_D16H25
simulation model 860021380016_56uF
pins: 1 P, 2 N
text: +

## 860021380017
designator C?, comment 68µF  (value not drawn)
WCAP-ATG5 Aluminum Electrolytic Capacitor, Radial, THT, D16 x H25mm, 68µF, 400V; Manufacturer Part Number: 860021380017; Manufacturer: Wurth Elektronik; Capacitance Tolerance: +/-20%; Dissipation Factor: 15%; Endurance: 2000h; Leakage Current: 816µA; Ripple Current: 410mA; Technical Reference: ATJK250680M400DSPAEB000; Category: Aluminum Electrolytic Capacitors; Match Code: WCAP-ATG5; ComponentLink1Description: Website Link; ComponentLink1URL: https://www.we-online.com/redexpert/article/860021380017?ad; ComponentLink2Description: Datasheet Link; ComponentLink2URL: https://www.we-online.com/redexpert/spec/860021380017?ad; Mount: Through Hole; Operating Temperature Max: 105°C; Operating Temperature Min: -25°C; Packaging: Ammo Pack; Height: 25mm; Diameter: 16mm; Capacitance: 68µF; Rated Voltage (DC): 400V
footprint WCAP-ATG5_D16H25
simulation model 860021380017_68uF
pins: 1 P, 2 N
text: +

## 860021380018
designator C?, comment 82µF  (value not drawn)
WCAP-ATG5 Aluminum Electrolytic Capacitor, Radial, THT, D16 x H31.5mm, 82µF, 400V; Manufacturer Part Number: 860021380018; Manufacturer: Wurth Elektronik; Capacitance Tolerance: +/-20%; Dissipation Factor: 15%; Endurance: 2000h; Leakage Current: 984µA; Ripple Current: 480mA; Technical Reference: ATJK315820M400DSPADB000; Category: Aluminum Electrolytic Capacitors; Match Code: WCAP-ATG5; ComponentLink1Description: Website Link; ComponentLink1URL: https://www.we-online.com/redexpert/article/860021380018?ad; ComponentLink2Description: Datasheet Link; ComponentLink2URL: https://www.we-online.com/redexpert/spec/860021380018?ad; Mount: Through Hole; Operating Temperature Max: 105°C; Operating Temperature Min: -25°C; Packaging: Ammo Pack; Height: 31.5mm; Diameter: 16mm; Capacitance: 82µF; Rated Voltage (DC): 400V
footprint WCAP-ATG5_D16H31.5
simulation model 860021380018_82uF
pins: 1 P, 2 N
text: +

## 860021380020
designator C?, comment 100µF  (value not drawn)
WCAP-ATG5 Aluminum Electrolytic Capacitor, Radial, THT, D16 x H31.5mm, 100µF, 400V; Manufacturer Part Number: 860021380020; Manufacturer: Wurth Elektronik; Capacitance Tolerance: +/-20%; Dissipation Factor: 15%; Endurance: 2000h; Leakage Current: 1200µA; Ripple Current: 520mA; Technical Reference: ATJK315101M400DSPADB000; Category: Aluminum Electrolytic Capacitors; Match Code: WCAP-ATG5; ComponentLink1Description: Website Link; ComponentLink1URL: https://www.we-online.com/redexpert/article/860021380020?ad; ComponentLink2Description: Datasheet Link; ComponentLink2URL: https://www.we-online.com/redexpert/spec/860021380020?ad; Mount: Through Hole; Operating Temperature Max: 105°C; Operating Temperature Min: -25°C; Packaging: Ammo Pack; Height: 31.5mm; Diameter: 16mm; Capacitance: 100µF; Rated Voltage (DC): 400V
footprint WCAP-ATG5_D16H31.5
simulation model 860021380020_100uF
pins: 1 P, 2 N
text: +

## 860021381019
designator C?, comment 82µF  (value not drawn)
WCAP-ATG5 Aluminum Electrolytic Capacitor, Radial, THT, D18 x H25mm, 82µF, 400V; Manufacturer Part Number: 860021381019; Manufacturer: Wurth Elektronik; Capacitance Tolerance: +/-20%; Dissipation Factor: 15%; Endurance: 2000h; Leakage Current: 984µA; Ripple Current: 470mA; Technical Reference: ATJL250820M400DSPAEB000; Category: Aluminum Electrolytic Capacitors; Match Code: WCAP-ATG5; ComponentLink1Description: Website Link; ComponentLink1URL: https://www.we-online.com/redexpert/article/860021381019?ad; ComponentLink2Description: Datasheet Link; ComponentLink2URL: https://www.we-online.com/redexpert/spec/860021381019?ad; Mount: Through Hole; Operating Temperature Max: 105°C; Operating Temperature Min: -25°C; Packaging: Ammo Pack; Height: 25mm; Diameter: 18mm; Capacitance: 82µF; Rated Voltage (DC): 400V
footprint WCAP-ATG5_D18H25
simulation model 860021381019_82uF
pins: 1 P, 2 N
text: +

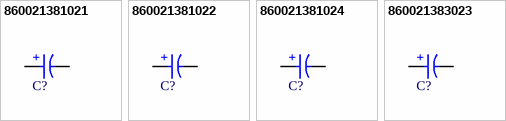
[diagram p5: symbols 860021381021 to 860021383023]

## 860021381021
designator C?, comment 120µF  (value not drawn)
WCAP-ATG5 Aluminum Electrolytic Capacitor, Radial, THT, D18 x H31.5mm, 120µF, 400V; Manufacturer Part Number: 860021381021; Manufacturer: Wurth Elektronik; Capacitance Tolerance: +/-20%; Dissipation Factor: 15%; Endurance: 2000h; Leakage Current: 1440µA; Ripple Current: 550mA; Technical Reference: ATJL315121M400DSPAEB000; Category: Aluminum Electrolytic Capacitors; Match Code: WCAP-ATG5; ComponentLink1Description: Website Link; ComponentLink1URL: https://www.we-online.com/redexpert/article/860021381021?ad; ComponentLink2Description: Datasheet Link; ComponentLink2URL: https://www.we-online.com/redexpert/spec/860021381021?ad; Mount: Through Hole; Operating Temperature Max: 105°C; Operating Temperature Min: -25°C; Packaging: Ammo Pack; Height: 31.5mm; Diameter: 18mm; Capacitance: 120µF; Rated Voltage (DC): 400V
footprint WCAP-ATG5_D18H31.5
simulation model 860021381021_120uF
pins: 1 P, 2 N
text: +

## 860021381022
designator C?, comment 150µF  (value not drawn)
WCAP-ATG5 Aluminum Electrolytic Capacitor, Radial, THT, D18 x H35.5mm, 150µF, 400V; Manufacturer Part Number: 860021381022; Manufacturer: Wurth Elektronik; Capacitance Tolerance: +/-20%; Dissipation Factor: 15%; Endurance: 2000h; Leakage Current: 1800µA; Ripple Current: 610mA; Technical Reference: ATJL355151M400DSPAEB000; Category: Aluminum Electrolytic Capacitors; Match Code: WCAP-ATG5; ComponentLink1Description: Website Link; ComponentLink1URL: https://www.we-online.com/redexpert/article/860021381022?ad; ComponentLink2Description: Datasheet Link; ComponentLink2URL: https://www.we-online.com/redexpert/spec/860021381022?ad; Mount: Through Hole; Operating Temperature Max: 105°C; Operating Temperature Min: -25°C; Packaging: Ammo Pack; Height: 35.5mm; Diameter: 18mm; Capacitance: 150µF; Rated Voltage (DC): 400V
footprint WCAP-ATG5_D18H35.5
simulation model 860021381022_150uF
pins: 1 P, 2 N
text: +

## 860021381024
designator C?, comment 180µF  (value not drawn)
WCAP-ATG5 Aluminum Electrolytic Capacitor, Radial, THT, D18 x H45mm, 180µF, 400V; Manufacturer Part Number: 860021381024; Manufacturer: Wurth Elektronik; Capacitance Tolerance: +/-20%; Dissipation Factor: 15%; Endurance: 2000h; Leakage Current: 2160µA; Ripple Current: 700mA; Technical Reference: ATJL450181M400DSPS1B000; Category: Aluminum Electrolytic Capacitors; Match Code: WCAP-ATG5; ComponentLink1Description: Website Link; ComponentLink1URL: https://www.we-online.com/redexpert/article/860021381024?ad; ComponentLink2Description: Datasheet Link; ComponentLink2URL: https://www.we-online.com/redexpert/spec/860021381024?ad; Mount: Through Hole; Operating Temperature Max: 105°C; Operating Temperature Min: -25°C; Packaging: Ammo Pack; Height: 45mm; Diameter: 18mm; Capacitance: 180µF; Rated Voltage (DC): 400V
footprint WCAP-ATG5_D18H45
simulation model 860021381024_180uF
pins: 1 P, 2 N
text: +

## 860021383023
designator C?, comment 150µF  (value not drawn)
WCAP-ATG5 Aluminum Electrolytic Capacitor, Radial, THT, D22 x H31mm, 150µF, 400V; Manufacturer Part Number: 860021383023; Manufacturer: Wurth Elektronik; Capacitance Tolerance: +/-20%; Dissipation Factor: 15%; Endurance: 2000h; Leakage Current: 1800µA; Ripple Current: 640mA; Technical Reference: ATJN310151M400DSPS2B000; Category: Aluminum Electrolytic Capacitors; Match Code: WCAP-ATG5; ComponentLink1Description: Website Link; ComponentLink1URL: https://www.we-online.com/redexpert/article/860021383023?ad; ComponentLink2Description: Datasheet Link; ComponentLink2URL: https://www.we-online.com/redexpert/spec/860021383023?ad; Mount: Through Hole; Operating Temperature Max: 105°C; Operating Temperature Min: -25°C; Packaging: Ammo Pack; Height: 31mm; Diameter: 22mm; Capacitance: 150µF; Rated Voltage (DC): 400V
footprint WCAP-ATG5_D22H31
simulation model 860021383023_150uF
pins: 1 P, 2 N
text: +